# EAGLE library part LEON-G100/G200 (library X893)
U-Blox GSM/GRPS module http://u-blox.com/en/wireless-modules/gsm-gprs-modules/leon-g100.html
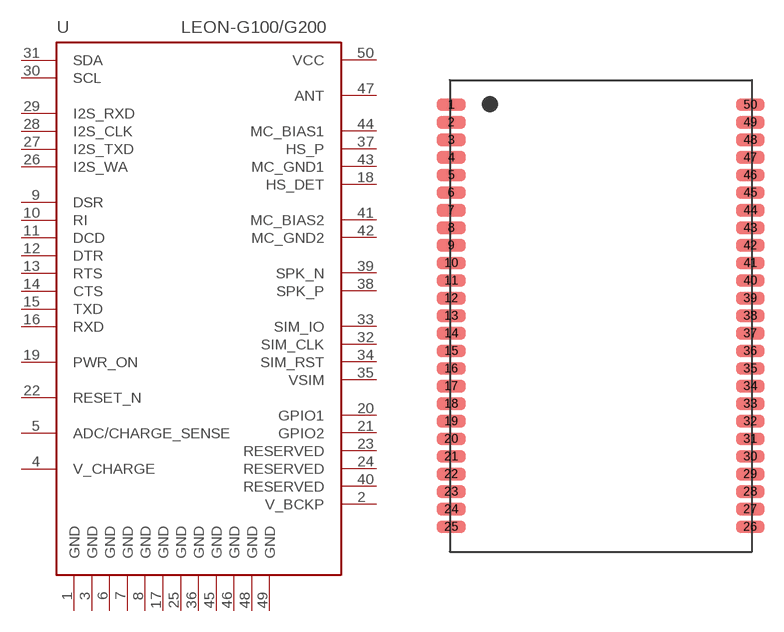
[diagram p26: symbol with the pads of LEON-G100/G200; footprint LEON-G100/G200]

Designator prefix U

## LEON-G100/G200  [LEON-G100/G200]
1  GND  pwr
2  V_BCKP  pas
3  GND  pwr
4  V_CHARGE  pas
5  ADC/CHARGE_SENSE  pas
6  GND  pwr
7  GND  pwr
8  GND  pwr
9  DSR  out
10  RI  out
11  DCD  out
12  DTR  in
13  RTS  in
14  CTS  out
15  TXD  in
16  RXD  out
17  GND  pwr
18  HS_DET  pas
19  PWR_ON
20  GPIO1
21  GPIO2
22  RESET_N
23  RESERVED  nc
24  RESERVED  nc
25  GND  pwr
26  I2S_WA
27  I2S_TXD
28  I2S_CLK
29  I2S_RXD
30  SCL
31  SDA
32  SIM_CLK
33  SIM_IO
34  SIM_RST
35  VSIM  pas
36  GND  pwr
37  HS_P  pas
38  SPK_P  pas
39  SPK_N  pas
40  RESERVED  nc
41  MC_BIAS2  pas
42  MC_GND2  pas
43  MC_GND1  pas
44  MC_BIAS1  pas
45  GND  pwr
46  GND  pwr
47  ANT  pas
48  GND  pwr
49  GND  pwr
50  VCC  pas

## Footprint LEON-G100/G200 (pad centres in mm)
smd 1.8 x 0.8: 1 -9.35,13.2; 2 -9.35,12.1; 3 -9.35,11; 4 -9.35,9.9; 5 -9.35,8.8; 6 -9.35,7.7; 7 -9.35,6.6; 8 -9.35,5.5; 9 -9.35,4.4; 10 -9.35,3.3; 11 -9.35,2.2; 12 -9.35,1.1; 13 -9.35,0; 14 -9.35,-1.1; 15 -9.35,-2.2; 16 -9.35,-3.3; 17 -9.35,-4.4; 18 -9.35,-5.5; 19 -9.35,-6.6; 20 -9.35,-7.7; 21 -9.35,-8.8; 22 -9.35,-9.9; 23 -9.35,-11; 24 -9.35,-12.1; 25 -9.35,-13.2; 26 9.35,-13.2; 27 9.35,-12.1; 28 9.35,-11; 29 9.35,-9.9; 30 9.35,-8.8; 31 9.35,-7.7; 32 9.35,-6.6; 33 9.35,-5.5; 34 9.35,-4.4; 35 9.35,-3.3; 36 9.35,-2.2; 37 9.35,-1.1; 38 9.35,0; 39 9.35,1.1; 40 9.35,2.2; 41 9.35,3.3; 42 9.35,4.4; 43 9.35,5.5; 44 9.35,6.6; 45 9.35,7.7; 46 9.35,8.8; 47 9.35,9.9; 48 9.35,11; 49 9.35,12.1; 50 9.35,13.2